# EAGLE library part ROTARYENCORDER (library FaBo-Parts)
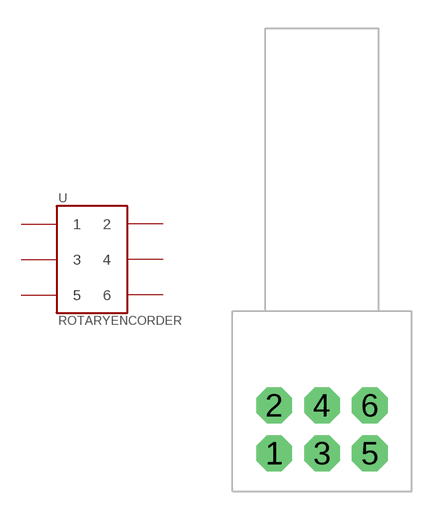
[diagram p1: symbol with the pads of ROTARYENCORDER; footprint ROTARYENCORDER]

Designator prefix U

## ROTARYENCORDER  [ROTARYENCORDER]
1  1
2  2
3  3
4  4
5  5
6  6

## Footprint ROTARYENCORDER (pad centres in mm)
drill 1.016 pad 1.9 octagon: 1 -2.54,-1.27; 2 -2.54,1.27; 3 0,-1.27; 4 0,1.27; 5 2.54,-1.27; 6 2.54,1.27